# Altium schematic symbol library 21992304.SchLib: 1 symbol
Pins are listed as number, name and electrical type; pins without a type are passive.

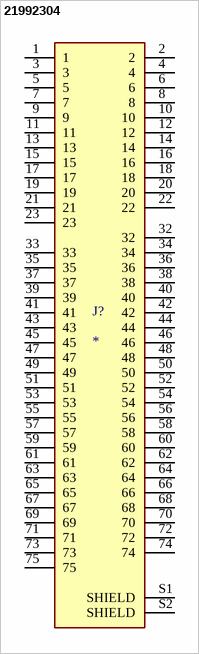
[diagram p0: symbol 21992304]

## 21992304
designator J?
Connector, Backplane, Housing, Receptacle, 67 Position, 2row; MF: TE Connectivity; MP: 2199230-4; Value: *; Purchase-URL: https://pricing.snapeda.com/search/part/2199230-4/?ref=eda; Price: None; Check_prices: https://www.snapeda.com/parts/2199230-4/TE+Connectivity+AMP+Connectors/view-part/?ref=eda; EU_RoHS_Compliance: Compliant; SnapEDA_Link: https://www.snapeda.com/parts/2199230-4/TE+Connectivity+AMP+Connectors/view-part/?ref=snap; Availability: In Stock; Package: None
footprint TE_21992304
pins: 1, 2, 3, 4, 5, 6, 7, 8, 9, 10, 11, 12, 13, 14, 15, 16, 17, 18, 19, 20, 21, 22, 23, 32, 33, 34, 35, 36, 37, 38, 39, 40, 41, 42, 43, 44, 45, 46, 47, 48, 49, 50, 51, 52, 53, 54, 55, 56, 57, 58, 59, 60, 61, 62, 63, 64, 65, 66, 67, 68, 69, 70, 71, 72, 73, 74, 75, S1 SHIELD, S2 SHIELD